# Altium footprint library CAP-V15.PcbLib: 1 footprints
Each footprint in its own frame and in the unit in brackets; x right, y up, seen from the top. Pads: shape width x height; smd on the part's side, far side on the other; paste and mask are expansions set on the pad; w line width, h text height; cw(c..) or ccw(c..) is an arc to the next point about the centre after c.
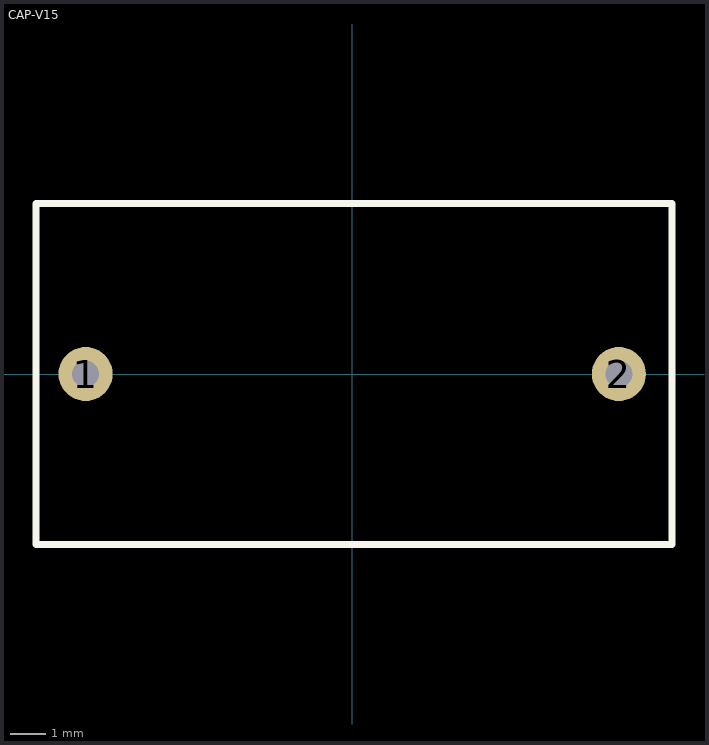
[diagram p0: the footprint, top view; thin cyan lines are the x and y axes]

## CAP-V15 [mil]
height 37.4
pads (2):
  round 60 hole 30: 1(-295.28,0) 2(295.28,0)
Top Overlay:
  lines w7.87: -350.39,-188.98 354.33,-188.98 354.33,188.98 -350.39,188.98 -350.39,47.49 -350.39,-76.03 -350.39,-188.98
Top Assembly:
  lines w3.94: -350.39,-188.98 354.33,-188.98 354.33,188.98 -350.39,188.98 -350.39,-40.35 -350.39,-188.98
  text "'.Designator'" at -36.42,-12.8 h27.56
3D body "Hitano MER 100nF 630V.STEP": height 649.61, standoff -177.17, extent -354.33,-187.01 354.33,187.01